# Altium footprint library TO-252-2.PcbLib: 1 footprints
Each footprint in its own frame and in the unit in brackets; x right, y up, seen from the top. Pads: shape width x height; smd on the part's side, far side on the other; paste and mask are expansions set on the pad; w line width, h text height; cw(c..) or ccw(c..) is an arc to the next point about the centre after c.
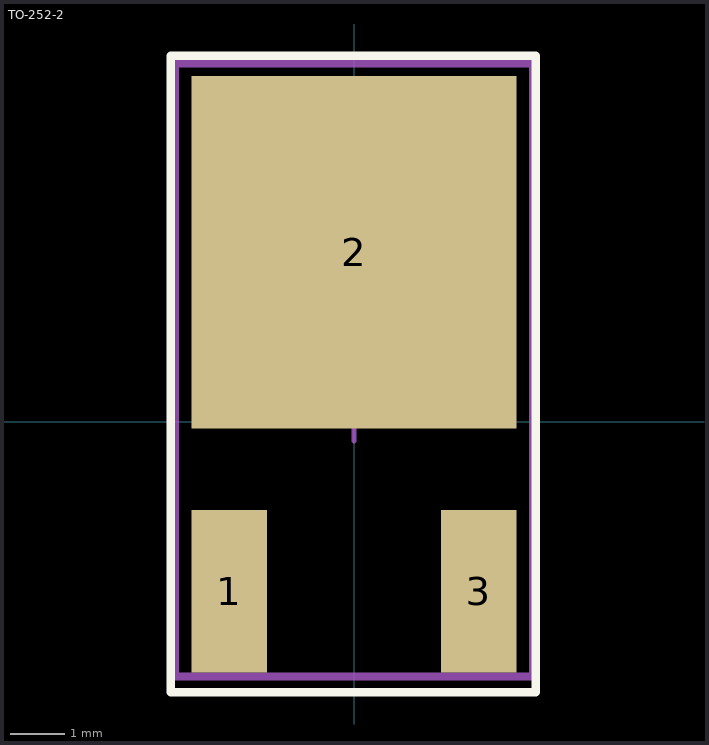
[diagram p0: the footprint, top view; thin cyan lines are the x and y axes]

## TO-252-2 [mm]
pads (3):
  rect 1.4x3 smd: 1(-2.3,-3.125) 3(2.3,-3.125)
  rect 6x6.5 smd: 2(0,3.125)
Top Overlay:
  lines w0.152: -3.378,-4.987 -3.378,6.748 3.353,6.748 3.353,-4.987 -3.378,-4.987
Top Designator:
  text ".Designator" at -7.618,-0.406 h1.52
Top Courtyard:
  lines w0.152: -3.302,-4.699 -3.302,6.604 3.302,6.604 3.302,-4.699 -3.302,-4.699
Top Component Center:
  lines w0.1: -0.353,0 0.353,0 ; 0,-0.353 0,0.353
3D body "CircuitWorks-TO-252.STEP": height 2.3, standoff 0, extent -3.29,-3.983 3.29,5.717